# EAGLE library part TPS56120* (library lib_ysk)
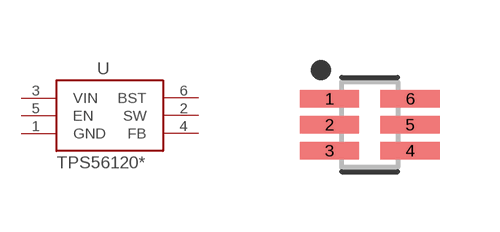
[diagram p14: symbol with the pads of SOT65P210X110-6; footprint SOT65P210X110-6]

Designator prefix -

## TPS56120  [SOT65P210X110-6]
1  GND
2  SW
3  VIN
4  FB
5  EN
6  BST

## Footprint SOT65P210X110-6 (pad centres in mm)
6-SOT23, 0.65 mm pitch, 2.10 mm span, 2.00 X 1.25 X 1.10 mm body 6-pin SOT23 package with 0.65 mm pitch, 2.10 mm span with body size 2.00 X 1.25 X 1.10 mm
smd 1.486 x 0.437: 1 -1.012,0.65; 2 -1.012,0; 3 -1.012,-0.65; 4 1.012,-0.65; 5 1.012,0; 6 1.012,0.65